# Altium footprint library Capacitors SMD.PcbLib: 2 footprints
Each footprint in its own frame and in the unit in brackets; x right, y up, seen from the top. Pads: shape width x height; smd on the part's side, far side on the other; paste and mask are expansions set on the pad; w line width, h text height; cw(c..) or ccw(c..) is an arc to the next point about the centre after c.
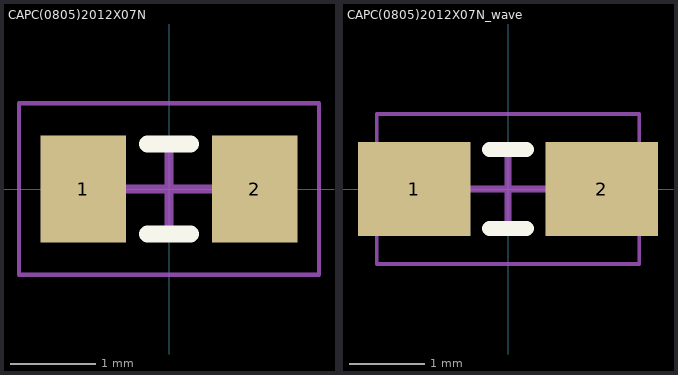
[diagram p0: the footprints below, top view; thin cyan lines are the x and y axes]

## CAPC(0805)2012X07N [mm] "Chip Diode, 2-Leads, Body 2,01x1,25mm, IPC Medium Density"
height 0.71
pads (2):
  rect 1x1.25 smd: 1(-1,0) 2(1,0)
Top Overlay:
  lines w0.2: -0.25,-0.525 0.25,-0.525 ; -0.25,0.525 0.25,0.525
Mechanical 15:
  lines w0.05: -1.75,-1 1.75,-1 1.75,1 -1.75,1 -1.75,-1
  lines w0.1: -0.5,0 0.5,0 ; 0,-0.5 0,0.5
3D body: height 0.8, standoff 0, extent -0.8,-0.425 0.8,0.435

## CAPC(0805)2012X07N_wave [mm] "Chip Diode, 2-Leads, Body 2,01x1,25mm, IPC Medium Density"
height 0.71
pads (2):
  rect 1.5x1.25 smd: 1(-1.25,0) 2(1.25,0)
Top Overlay:
  lines w0.2: -0.25,-0.525 0.25,-0.525 ; -0.25,0.525 0.25,0.525
Mechanical 15:
  lines w0.05: -1.75,-1 1.75,-1 1.75,1 -1.75,1 -1.75,-1
  lines w0.1: -0.5,0 0.5,0 ; 0,-0.5 0,0.5
3D body: height 0.8, standoff 0, extent -0.8,-0.425 0.8,0.435